# Altium schematic symbol library MUR1100ERLG.SchLib: 1 symbol
Pins are listed as number, name and electrical type; pins without a type are passive.

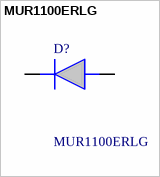
[diagram p0: symbol MUR1100ERLG]

## MUR1100ERLG
designator D?
10 mjoules Avalanche Energy Guaranteed; Excellent Protection Against Voltage Transients in Switching Inductive Load Circuits; Ultrafast 75 Nanosecond Recovery Time; 175C Operating Junction Temperature; Low Forward Voltage; Low Leakage Current; High Temperature Glass Passivated Junction; Reverse Voltage to 1000 Volts Mechanical Characteristics:; Case: Epoxy, Molded; Weight: 0.4 gram (approximately); Finish: All External Surfaces Corrosion Resistant and Terminal Leads are Readily Solderable; Lead Temperature; Manufacturer_Name: onsemi; Mouser Part Number: 863-MUR1100ERLG; Mouser Price/Stock: https://www.mouser.co.uk/ProductDetail/onsemi/MUR1100ERLG?qs=Gev%252BmEvV0iYU5SXMT2pK9w%3D%3D; Manufacturer_Part_Number: MUR1100ERLG; Datasheet Link: https://www.onsemi.com/pub/Collateral/MUR180E-D.PDF
footprint DIOAD1405W86L465D235
pins: 1 K, 2 A